# Altium footprint library OTTO.PcbLib: 50 footprints (part 1 of 4)
Each footprint in its own frame and in the unit in brackets; x right, y up, seen from the top. Pads: shape width x height; smd on the part's side, far side on the other; paste and mask are expansions set on the pad; w line width, h text height; cw(c..) or ccw(c..) is an arc to the next point about the centre after c.
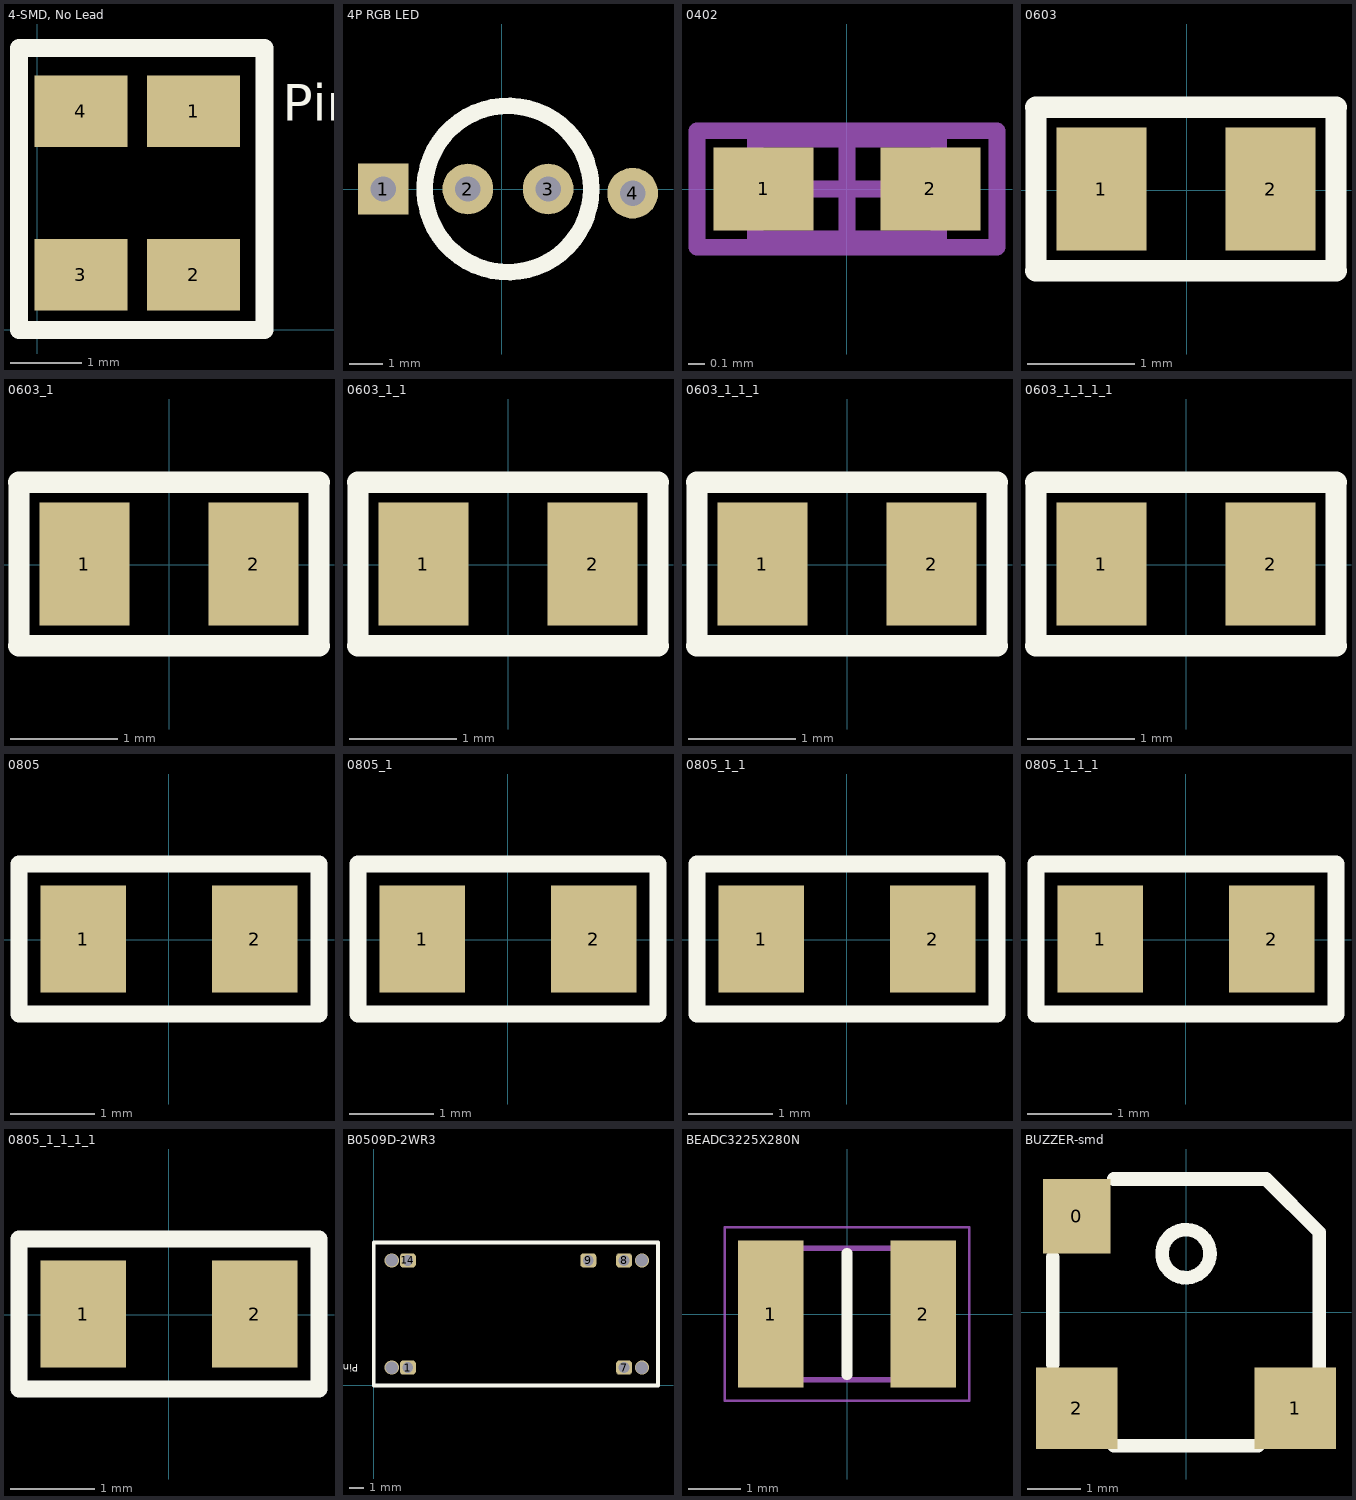
[diagram p0: the footprints below, top view; thin cyan lines are the x and y axes]

## 4-SMD, No Lead [mm] "XT3249CA38"
height 1.9
pads (4):
  rect 1.3x1 smd: 1(2.184,3.057) 2(2.184,0.771) 3(0.61,0.771) 4(0.61,3.057)
Top Overlay:
  lines w0.254: -0.254,0 -0.254,3.937 3.175,3.937 3.175,0 -0.254,0
  text "Pin 1" at 3.429,2.921 h0.51

## 4P RGB LED [mil]
height 74.8
pads (4):
  rect 60x60 hole 30: 1(-140,0)
  round 60 hole 30: 2(-40,0) 3(55,0) 4(155,-5)
Top Overlay:
  circle w19.68: c7.4,0 r98.43

## 0402 [mm] "Chip Capacitor, Body 1.0x0.5mm, IPC High Density"
height 1.3
pads (2):
  rect 0.6x0.5 smd: 1(-0.5,0) 2(0.5,0)
Mechanical 13:
  lines w0.1: -0.55,-0.3 -0.55,0.3 0.55,0.3 0.55,-0.3 -0.55,-0.3
Mechanical 15:
  lines w0.1: -0.3,0 0.3,0 ; 0,-0.3 0,0.3 ; -0.9,-0.35 -0.9,0.35 0.9,0.35 0.9,-0.35 -0.9,-0.35
3D body: height 1.3, standoff 0, extent -0.55,-0.3 0.55,0.3

## 0603 [mil]
pads (2):
  rect 33x45 smd: 1(-31.26,0.4) 2(30.74,0.4)
Top Overlay:
  lines w7.87: -55.26,-29.6 -55.26,30.4 ; 54.74,-29.6 54.74,30.4
  lines w8: -55.26,-29.6 54.74,-29.6 ; -55.26,30.4 54.74,30.4

## 0603_1 [mil]
pads (2):
  rect 33x45 smd: 1(-31,0.35) 2(31,0.35)
Top Overlay:
  lines w7.87: -55,-29.65 -55,30.35 ; 55,-29.65 55,30.35
  lines w8: -55,-29.65 55,-29.65 ; -55,30.35 55,30.35

## 0603_1_1 [mil]
pads (2):
  rect 33x45 smd: 1(-31,0.35) 2(31,0.35)
Top Overlay:
  lines w7.87: -55,-29.65 -55,30.35 ; 55,-29.65 55,30.35
  lines w8: -55,-29.65 55,-29.65 ; -55,30.35 55,30.35

## 0603_1_1_1 [mil]
pads (2):
  rect 33x45 smd: 1(-31,0.35) 2(31,0.35)
Top Overlay:
  lines w7.87: -55,-29.65 -55,30.35 ; 55,-29.65 55,30.35
  lines w8: -55,-29.65 55,-29.65 ; -55,30.35 55,30.35

## 0603_1_1_1_1 [mil]
pads (2):
  rect 33x45 smd: 1(-31,0.35) 2(31,0.35)
Top Overlay:
  lines w7.87: -55,-29.65 -55,30.35 ; 55,-29.65 55,30.35
  lines w8: -55,-29.65 55,-29.65 ; -55,30.35 55,30.35

## 0805 [mil]
pads (2):
  rect 40x50 smd: 1(-40,0.35) 2(40,0.35)
Top Overlay:
  lines w8: -70,-34.65 70,-34.65 70,35.35 -70,35.35 -70,-34.65

## 0805_1 [mil]
pads (2):
  rect 40x50 smd: 1(-40,0.35) 2(40,0.35)
Top Overlay:
  lines w8: -70,-34.65 70,-34.65 70,35.35 -70,35.35 -70,-34.65

## 0805_1_1 [mil]
pads (2):
  rect 40x50 smd: 1(-40,0.35) 2(40,0.35)
Top Overlay:
  lines w8: -70,-34.65 70,-34.65 70,35.35 -70,35.35 -70,-34.65

## 0805_1_1_1 [mil]
pads (2):
  rect 40x50 smd: 1(-40,0.35) 2(40,0.35)
Top Overlay:
  lines w8: -70,-34.65 -70,35.35 70,35.35 70,-34.65 -70,-34.65

## 0805_1_1_1_1 [mil]
pads (2):
  rect 40x50 smd: 1(-40,0.35) 2(40,0.35)
Top Overlay:
  lines w8: -70,-34.65 70,-34.65 70,35.35 -70,35.35 -70,-34.65

## B0509D-2WR3 [mil] "Mornsun DC-DC Converter"
height 74.8
pads (5):
  rrect50% 45x40 hole 30: 1(95,50) 7(700,50) 8(700,350) 9(600,350) 14(95,350)
via 50,50 diameter 40 hole 35
via 50,350 diameter 40 hole 35
via 750,350 diameter 40 hole 35
via 750,50 diameter 40 hole 35
Top Overlay:
  lines w10: 0,350 0,400 ; 0,400 795,400 795,0 0,0 0,400
  text "Pin 1" at -44.54,59.99 h20

## BEADC3225X280N [mm]
pads (2):
  rect 1.25x2.8 smd: 1(-1.45,0) 2(1.45,0)
Top Overlay:
  lines w0.2: 0,-1.15 0,1.15
Mechanical 13:
  lines w0.1: -1.6,-1.25 -1.6,1.25 1.6,1.25 1.6,-1.25 -1.6,-1.25
Mechanical 15:
  lines w0.05: -2.325,-1.65 -2.325,1.65 2.325,1.65 2.325,-1.65 -2.325,-1.65
3D body "FBMH3225HM102NT.stp": height 2.8, standoff 0, extent -1.6,-1.25 1.6,1.25

## BUZZER-smd [mm]
height 0.5
pads (3):
  rect 1.27x1.397 smd: 0(-2.05,1.8)
  rect 1.524x1.524 smd: 1(2.05,-1.8) 2(-2.05,-1.8)
Top Overlay:
  circle w0.254: c0,1.1 r0.45
  lines w0.254: -2.5,-0.97 -2.5,1.029 ; -1.35,-2.5 1.35,-2.5 ; -1.35,2.5 1.5,2.5 2.5,1.5 2.5,-1.1